# Altium schematic symbol library CONN JACK MONO.SchLib: 1 symbol
Pins are listed as number, name and electrical type; pins without a type are passive.

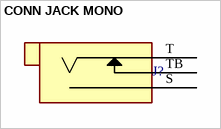
[diagram p0: symbol CONN JACK MONO]

## CONN JACK MONO
designator J?, comment SwitchCraft_RA49C12A  (value not drawn)
CONN JACK MONO 6.35MM R/A; Supplier: Digikey; Supplier Part #: SC1862-ND
footprint CONN JACK MONO (CONN JACK MONO 6.35MM R/A)
pins: S, T, TB